# Altium schematic symbol library DRV8835.SchLib: 1 symbol
Pins are listed as number, name and electrical type; pins without a type are passive.

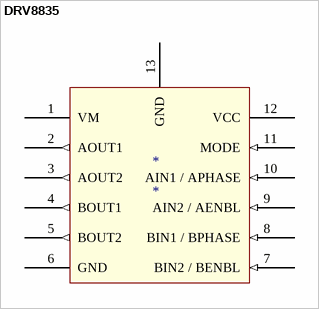
[diagram p0: symbol DRV8835]

## DRV8835
designator *
footprint PCBComponent_1
pins: 1 VM (power), 2 AOUT1 (out), 3 AOUT2 (out), 4 BOUT1 (out), 5 BOUT2 (out), 6 GND (power), 7 BIN2 / BENBL (in), 8 BIN1 / BPHASE (in), 9 AIN2 / AENBL (in), 10 AIN1 / APHASE (in), 11 MODE (in), 12 VCC (power), 13 GND (power)